# Altium schematic symbol library Matrix.SchLib: 8 symbols
Pins are listed as number, name and electrical type; pins without a type are passive.

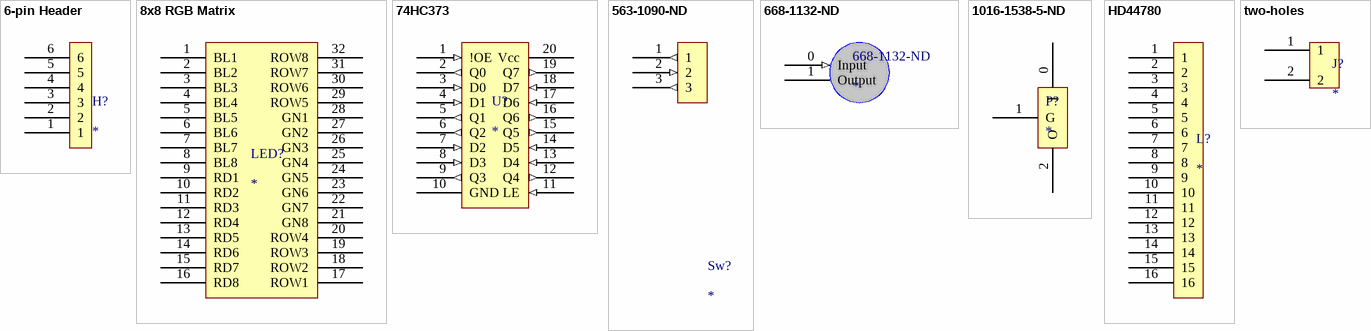
[diagram p0: symbols 6-pin Header to two-holes]

## 6-pin Header
designator H?
footprint 6-pin Header
pins: 1, 2, 3, 4, 5, 6

## 8x8 RGB Matrix
designator LED?
footprint 8x8 RGB Matrix
pins: 1 BL1, 2 BL2, 3 BL3, 4 BL4, 5 BL5, 6 BL6, 7 BL7, 8 BL8, 9 RD1, 10 RD2, 11 RD3, 12 RD4, 13 RD5, 14 RD6, 15 RD7, 16 RD8, 17 ROW1, 18 ROW2, 19 ROW3, 20 ROW4, 21 GN8, 22 GN7, 23 GN6, 24 GN5, 25 GN4, 26 GN3, 27 GN2, 28 GN1, 29 ROW5, 30 ROW6, 31 ROW7, 32 ROW8

## 74HC373
designator U?
footprint 74HC373
pins: 1 !OE (in), 2 Q0 (out), 3 D0 (in), 4 D1 (in), 5 Q1 (out), 6 Q2 (out), 7 D2 (in), 8 D3 (in), 9 Q3 (out), 10 GND, 11 LE (in), 12 Q4 (out), 13 D4 (in), 14 D5 (in), 15 Q5 (out), 16 Q6 (out), 17 D6 (in), 18 D7 (in), 19 Q7 (out), 20 Vcc (power)

## 563-1090-ND
designator Sw?
footprint 563-1090-ND
pins: 1 (out), 2 (in), 3 (out)

## 668-1132-ND
designator 668-1132-ND
footprint 668-1132-ND
pins: 0 Input (in), 1 Output (power)

## 1016-1538-5-ND
designator P?
footprint 1016-1538-5-ND
pins: 0 I, 1 G, 2 O

## HD44780
designator L?
footprint HD44780
pins: 1, 2, 3, 4, 5, 6, 7, 8, 9, 10, 11, 12, 13, 14, 15, 16

## two-holes
designator J?
footprint two-holes
pins: 1, 2